# EAGLE library part 629105150921 (library 632723100011_Eagle_WR-USB_rev19b)
WR-COM_USB_Micro Type AB_Horizontal_SMT ; Micro Type AB Horizontal SMT - with Pegs - T&R Packaging Code : Con_I-O_COM_USB_2.0_AB_629105150921_629105150921 <http://katalog.we-online.de/media/images/eican/Con_I-O_COM_USB_2.0_AB_629105150921_pf2.jpg> Details see: http://katalog.we-online.de/em/datasheet/629105150921.pdf Created 12/08/2014, Dan Xu 2014 (C) Wurth Elektronik
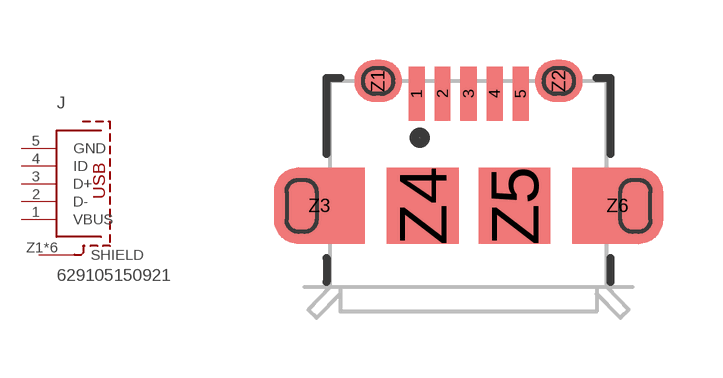
[diagram p148: symbol with the pads of 629105150921; footprint 629105150921]

Designator prefix J

## 629105150921  [629105150921]
1  VBUS  pas
2  D-  pas
3  D+  pas
4  ID  pas
5  GND  pas
Z1  SHIELD  pas
Z2  SHIELD  pas
Z3  SHIELD  pas
Z4  SHIELD  pas
Z5  SHIELD  pas
Z6  SHIELD  pas

## Footprint 629105150921 (pad centres in mm)
629105150921 WR-COM_USB_Micro Type AB_Horizontal_SMT Micro Type AB Horizontal SMT - with Pegs - T&R Packaging
smd 0.4 x 1.35: 1 -1.3,2.805; 2 -0.65,2.805; 3 0,2.805; 4 0.65,2.805; 5 1.3,2.805
smd 0.5 x 0.5: Z1 -2.26,3.12; Z2 2.26,3.12; Z3 -3.725,0; Z6 3.725,0
smd 1.8 x 1.9: Z4 -1.15,0; Z5 1.15,0